# EAGLE library part LT3024 (library PowerProducts)
LT-Spice library generated with : ltspice.ulp from: E:/Programme/LTC/LTspiceIV/lib/sym/PowerProducts/LT3027*.asy at 05.10.2012 11:02:51
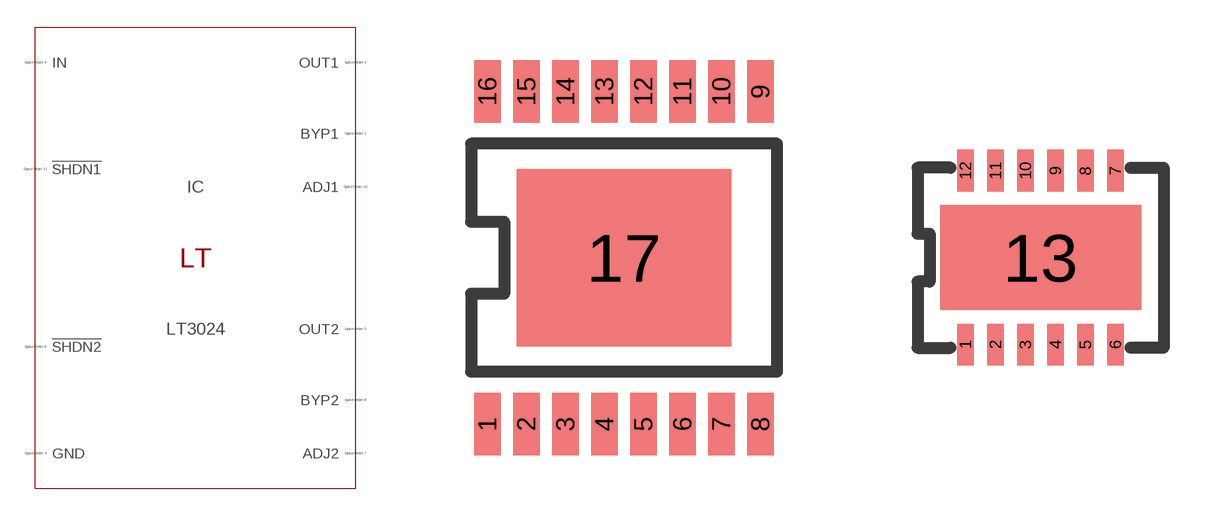
[diagram p23: symbol with the pads of TSSOP16BB(FE); footprints TSSOP16BB(FE), DFN12(DE)]

Designator prefix IC

## LT3024FE (SPICEMODEL: LT1762.lib; SPICEPREFIX: X; VALUE2: LT1762)  [TSSOP16BB(FE)]
1  GND  pas
2  BYP1  pas
3  OUT1  pas
4  OUT1  pas
5  GND  pas
6  OUT2  pas
7  BYP2  pas
8  GND  pas
9  GND  pas
10  ADJ2  pas
11  !SHDN2  pas
12  IN  pas
13  IN  pas
14  !SHDN1  pas
15  ADJ1  pas
16  GND  pas
17  GND  pas

## LT3024 (SPICEMODEL: LT1762.lib; SPICEPREFIX: X; VALUE2: LT1762)  [DFN12(DE)]
1  BYP1  pas
2  OUT1  pas
3  OUT1  pas
4  GND  pas
5  OUT2  pas
6  BYP2  pas
7  ADJ2  pas
8  !SHDN2  pas
9  IN  pas
10  IN  pas
11  !SHDN1  pas
12  ADJ1  pas
13  GND  pas

## Footprint TSSOP16BB(FE) (pad centres in mm)
Package generated from: TSSOP16BB(FE).asc (!PADS-POWERPCB-V5.0-BASIC! DESIGN DATABASE ASCII FILE 1.0) with :import-pads-powerpcb-v5.ulp Version 1.0.1 at 04.10.2012 14:11:39
smd 0.66 x 1.575: 1 -3.413,-4.162; 2 -2.438,-4.162; 3 -1.462,-4.162; 4 -0.487,-4.162; 5 0.487,-4.162; 6 1.462,-4.162; 7 2.438,-4.162; 8 3.413,-4.162; 9 3.413,4.162; 10 2.438,4.162; 11 1.462,4.162; 12 0.487,4.162; 13 -0.487,4.162; 14 -1.462,4.162; 15 -2.438,4.162; 16 -3.413,4.162
smd 5.37 x 4.425: 17 0,0

## Footprint DFN12(DE) (pad centres in mm)
Package generated from: DFN12(DE).asc (!PADS-POWERPCB-V5.0-BASIC! DESIGN DATABASE ASCII FILE 1.0) with :import-pads-powerpcb-v5.ulp Version 1.0.1 at 04.10.2012 14:11:16
smd 0.42 x 1.05: 1 -1.875,-2.175; 2 -1.125,-2.175; 3 -0.375,-2.175; 4 0.375,-2.175; 5 1.125,-2.175; 6 1.875,-2.175; 7 1.875,2.175; 8 1.125,2.175; 9 0.375,2.175; 10 -0.375,2.175; 11 -1.125,2.175; 12 -1.875,2.175
smd 5.025 x 2.625: 13 0,0